# Altium schematic symbol library flipper-pb.SchLib: 12 symbols
Pins are listed as number, name and electrical type; pins without a type are passive.

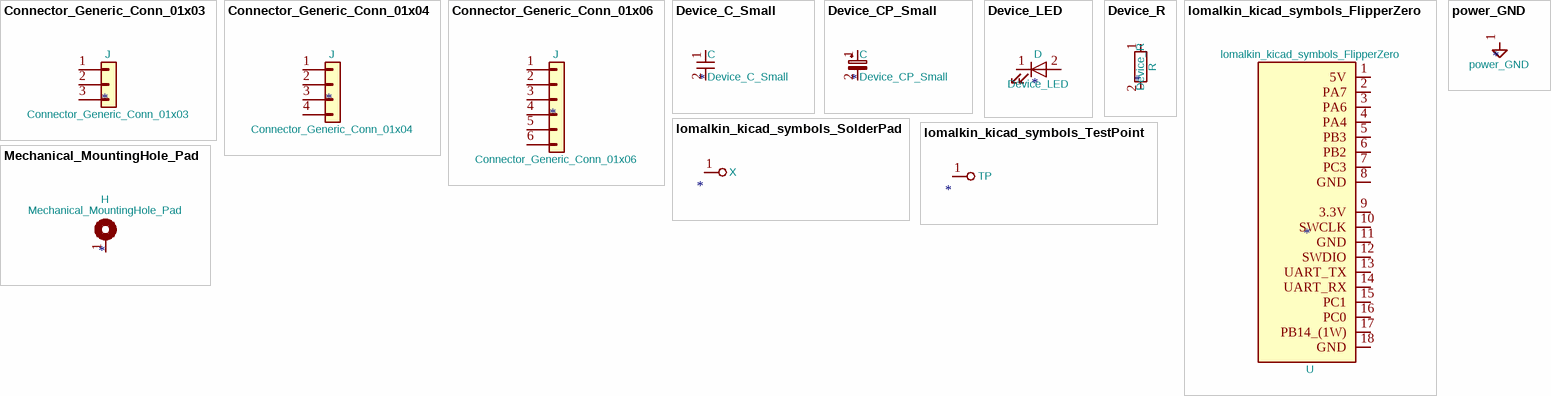
[diagram p0: symbols Connector_Generic_Conn_01x03 to power_GND]

## Connector_Generic_Conn_01x03
designator J  value Connector_Generic_Conn_01x03
pins: 1 Pin_1, 2 Pin_2, 3 Pin_3

## Connector_Generic_Conn_01x04
designator J  value Connector_Generic_Conn_01x04
pins: 1 Pin_1, 2 Pin_2, 3 Pin_3, 4 Pin_4

## Connector_Generic_Conn_01x06
designator J  value Connector_Generic_Conn_01x06
pins: 1 Pin_1, 2 Pin_2, 3 Pin_3, 4 Pin_4, 5 Pin_5, 6 Pin_6

## Device_C_Small
designator C  value Device_C_Small
pins: 1, 2

## Device_CP_Small
designator C  value Device_CP_Small
pins: 1, 2

## Device_LED
designator D  value Device_LED
pins: 1 K, 2 A

## Device_R
designator R  value Device_R
pins: 1, 2

## lomalkin_kicad_symbols_FlipperZero
designator U  value lomalkin_kicad_symbols_FlipperZero
pins: 1 5V, 2 PA7, 3 PA6, 4 PA4, 5 PB3, 6 PB2, 7 PC3, 8 GND, 9 3.3V, 10 SWCLK, 11 GND, 12 SWDIO, 13 UART_TX, 14 UART_RX, 15 PC1, 16 PC0, 17 PB14_(1W), 18 GND

## lomalkin_kicad_symbols_SolderPad
designator X
Value: lomalkin_kicad_symbols_SolderPad
pins: 1

## lomalkin_kicad_symbols_TestPoint
designator TP
Value: lomalkin_kicad_symbols_TestPoint
pins: 1

## Mechanical_MountingHole_Pad
designator H  value Mechanical_MountingHole_Pad
pins: 1

## power_GND
designator #PWR  value power_GND
pins: 1 GND